# EAGLE library part TPS2553 (library ruark2)
Power Switch/Driver 1:1 N-Channel 1.5A SOT-23-6
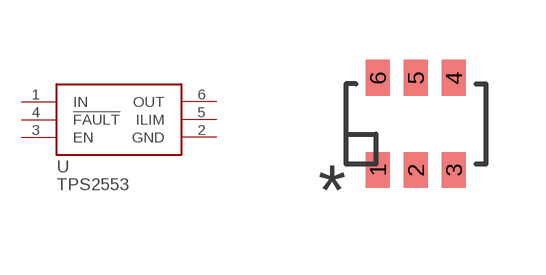
[diagram p194: symbol with the pads of SOT23-6; footprint SOT23-6]

Designator prefix U

## TPS2553 (PARTNO: 296-39380-1-ND)  [SOT23-6]
1  IN
2  GND
3  EN
4  !FAULT
5  ILIM
6  OUT

## Footprint SOT23-6 (pad centres in mm)
smd 0.6 x 0.9: 1 -0.95,-1.15; 2 0,-1.15; 3 0.95,-1.15; 4 0.95,1.15; 5 0,1.15; 6 -0.95,1.15